# Altium integrated library TLC2272QDR.IntLib: 1 symbol
Pins are listed as number, name and electrical type; pins without a type are passive.

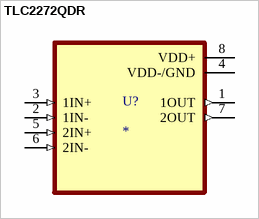
[diagram p0: symbol TLC2272QDR]

## TLC2272QDR
designator U?
MP: TLC2272QDR; Package: None; Price: None; Value: *; Availability: Unavailable
footprint SOIC127P599X175-8N
pins: 1 1OUT (out), 2 1IN- (in), 3 1IN+ (in), 4 VDD-/GND (power), 5 2IN+ (in), 6 2IN- (in), 7 2OUT (out), 8 VDD+ (power)